# EAGLE library part MCP41*** (library gost_micro)
MCP41XXX Digital Potentiometer with SPI™ Interface
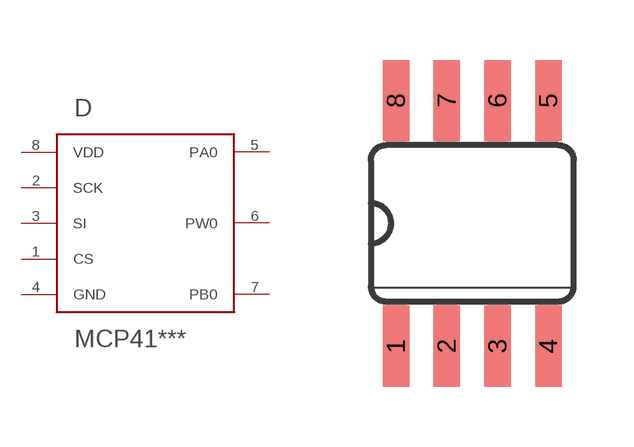
[diagram p25: symbol with the pads of SO08; footprint SO08]

Designator prefix D

## MCP41SN  [SO08]
1  CS
2  SCK
3  SI
4  GND
5  PA0
6  PW0
7  PB0
8  VDD

## Footprint SO08 (pad centres in mm)
Small Outline package 8 150 mil
smd 0.66 x 2.032: 1 -1.905,-3.073; 2 -0.635,-3.073; 3 0.635,-3.073; 4 1.905,-3.073; 5 1.905,3.073; 6 0.635,3.073; 7 -0.635,3.073; 8 -1.905,3.073